# Altium schematic symbol library IRFH7911.SchLib: 1 symbol
Pins are listed as number, name and electrical type; pins without a type are passive.

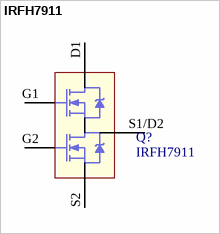
[diagram p0: symbol IRFH7911]

## IRFH7911
designator Q?
HEXFET Power MOSFET
footprint DUAL_PQFN5X6
pins: D1, G1, G2, S1/D2, S2